# EAGLE library part 11PIN_HEADER (library StevenV1)
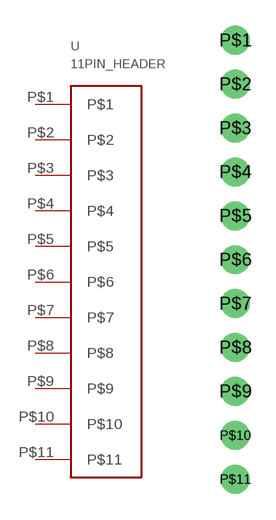
[diagram p6: symbol with the pads of 11PIN_HEADER; footprint 11PIN_HEADER]

Designator prefix -

## 11PIN_HEADER  [11PIN_HEADER]
P$1  P$1
P$2  P$2
P$3  P$3
P$4  P$4
P$5  P$5
P$6  P$6
P$7  P$7
P$8  P$8
P$9  P$9
P$10  P$10
P$11  P$11

## Footprint 11PIN_HEADER (pad centres in mm)
drill 0.9 pad 1.676: P$1 0,12.7; P$2 0,10.16; P$3 0,7.62; P$4 0,5.08; P$5 0,2.54; P$6 0,0; P$7 0,-2.54; P$8 0,-5.08; P$9 0,-7.62; P$10 0,-10.16; P$11 0,-12.7